# EAGLE library part M10478-A3 (library Antenova)
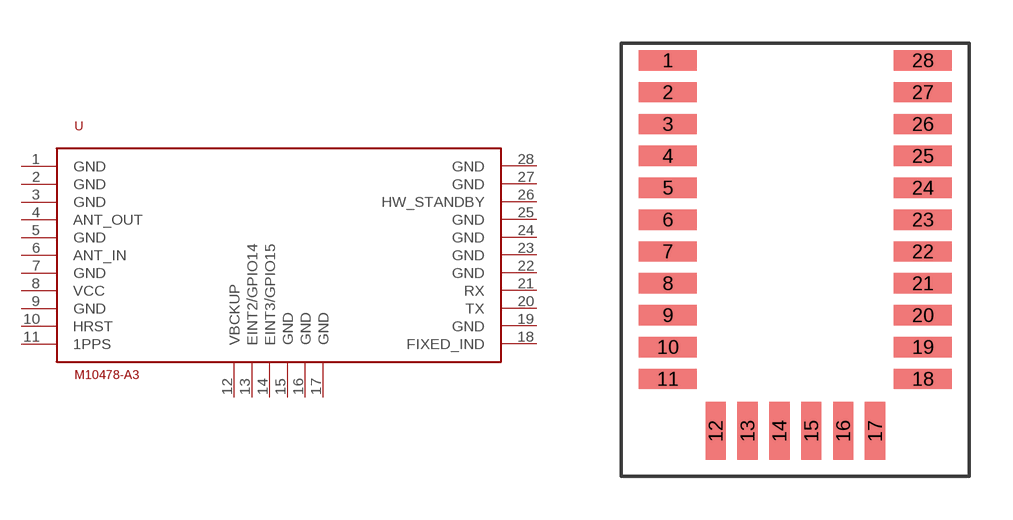
[diagram p0: symbol with the pads of M10478-A3; footprint M10478-A3]

Designator prefix -

## M10478-A3  [M10478-A3]
1  GND
2  GND
3  GND
4  ANT_OUT
5  GND
6  ANT_IN
7  GND
8  VCC
9  GND
10  HRST
11  1PPS
12  VBCKUP
13  EINT2/GPIO14
14  EINT3/GPIO15
15  GND
16  GND
17  GND
18  FIXED_IND
19  GND
20  TX
21  RX
22  GND
23  GND
24  GND
25  GND
26  HW_STANDBY
27  GND
28  GND

## Footprint M10478-A3 (pad centres in mm)
smd 2 x 0.7: 1 -4.4,12.8; 2 -4.4,11.7; 3 -4.4,10.6; 4 -4.4,9.5; 5 -4.4,8.4; 6 -4.4,7.3; 7 -4.4,6.2; 8 -4.4,5.1; 9 -4.4,4; 10 -4.4,2.9; 11 -4.4,1.8; 18 4.4,1.8; 19 4.4,2.9; 20 4.4,4; 21 4.4,5.1; 22 4.4,6.2; 23 4.4,7.3; 24 4.4,8.4; 25 4.4,9.5; 26 4.4,10.6; 27 4.4,11.7; 28 4.4,12.8
smd 0.7 x 2: 12 -2.75,0; 13 -1.65,0; 14 -0.55,0; 15 0.55,0; 16 1.65,0; 17 2.75,0